# Altium footprint library PCB - CONNECTOR - MOLEX - MOLEX 0734120110.PCBLIB: 1 footprints
Each footprint in its own frame and in the unit in brackets; x right, y up, seen from the top. Pads: shape width x height; smd on the part's side, far side on the other; paste and mask are expansions set on the pad; w line width, h text height; cw(c..) or ccw(c..) is an arc to the next point about the centre after c.
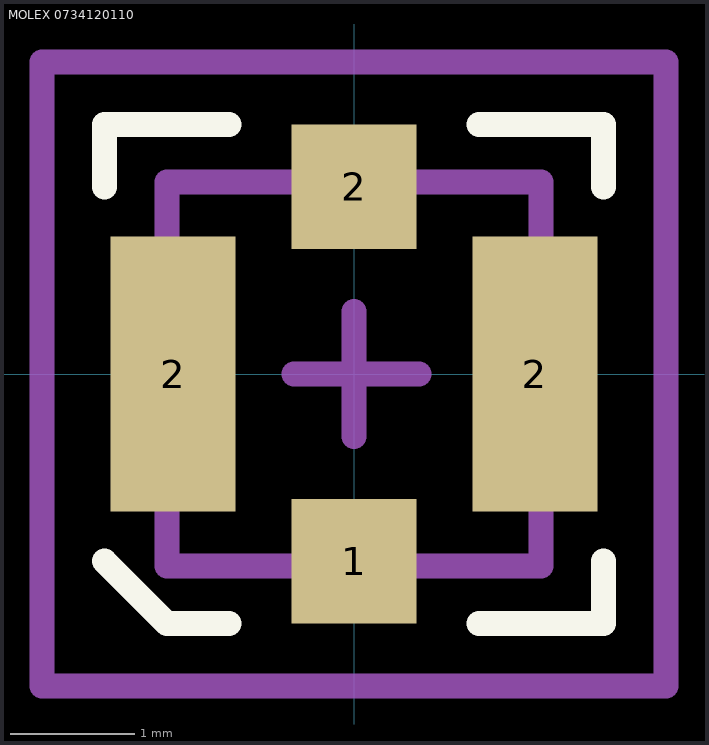
[diagram p0: the footprint, top view; thin cyan lines are the x and y axes]

## MOLEX 0734120110 [mm]
height 1.23
pads (4):
  rect 1x1 smd: 1(0,-1.5) 2(0,1.5)
  rect 1x2.2 smd: 2(-1.45,0) 2(1.45,0)
Top Overlay:
  lines w0.2: -2,-1.5 -1.5,-2 -1,-2 ; -2,1.5 -2,2 -1,2 ; 1,-2 2,-2 2,-1.5 ; 1,2 2,2 2,1.5
Mechanical 13:
  lines w0.2: -1.5,-1.54 1.5,-1.54 1.5,1.54 -1.5,1.54 -1.5,-1.54
Mechanical 15:
  lines w0.2: -0.48,0 0.52,0 ; 0,-0.5 0,0.5 ; -2.5,-2.5 2.5,-2.5 2.5,2.5 -2.5,2.5 -2.5,-2.5
3D body "734120110.STEP": height 1.29, standoff -0.01, extent -1.5,-1.54 1.5,1.54